# Altium footprint library 292303_5.PcbLib: 1 footprints
Each footprint in its own frame and in the unit in brackets; x right, y up, seen from the top. Pads: shape width x height; smd on the part's side, far side on the other; paste and mask are expansions set on the pad; w line width, h text height; cw(c..) or ccw(c..) is an arc to the next point about the centre after c.
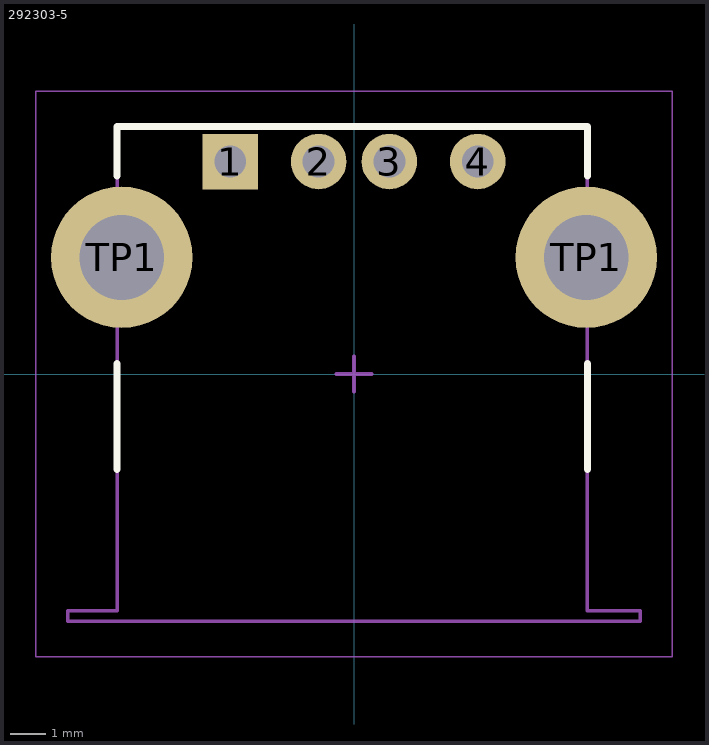
[diagram p0: the footprint, top view; thin cyan lines are the x and y axes]

## 292303-5 [mm] "USB 2.0 Type A R/A Type"
height 7.01
pads (6):
  rect 1.57x1.57 hole 0.9: 1(-3.5,6.01)
  round 1.57 hole 0.9: 2(-1,6.01) 3(1,6.01) 4(3.5,6.01)
  round 4 hole 2.4: TP1(-6.57,3.3) TP1(6.57,3.3)
Top Overlay:
  lines w0.2: -6.7,-2.7 -6.7,0.3 ; -6.7,5.6 -6.7,7 6.6,7 6.6,5.6 ; 6.6,-2.7 6.6,0.3
Top Comment:
  text ".Comment" at 1.25,8.5 h1.2
Top Designator:
  text ".Designator" at -0.5,8.5 h1.2
Top Component Outline:
  lines w0.1: -8.1,-7 -8.1,-6.7 -6.7,-6.7 -6.7,7 0,7 6.6,7 6.6,-6.7 8.1,-6.7 8.1,-7 6.6,-7 -6.7,-7 -7,-7 -8.1,-7
Top Courtyard (Mech15):
  lines w0.05: -9,-8 -9,8 9,8 9,-8 -9,-8
  lines w0.1: -0.5,0 0.5,0 ; 0,-0.5 0,0.5
3D body "c-292303-5-f-3d.stp": height 7.77, standoff -3.59, extent -8.115,-7 8.117,7